# Altium footprint library AUVic_PCB_Library_Sensors.PcbLib: 11 footprints
Each footprint in its own frame and in the unit in brackets; x right, y up, seen from the top. Pads: shape width x height; smd on the part's side, far side on the other; paste and mask are expansions set on the pad; w line width, h text height; cw(c..) or ccw(c..) is an arc to the next point about the centre after c.
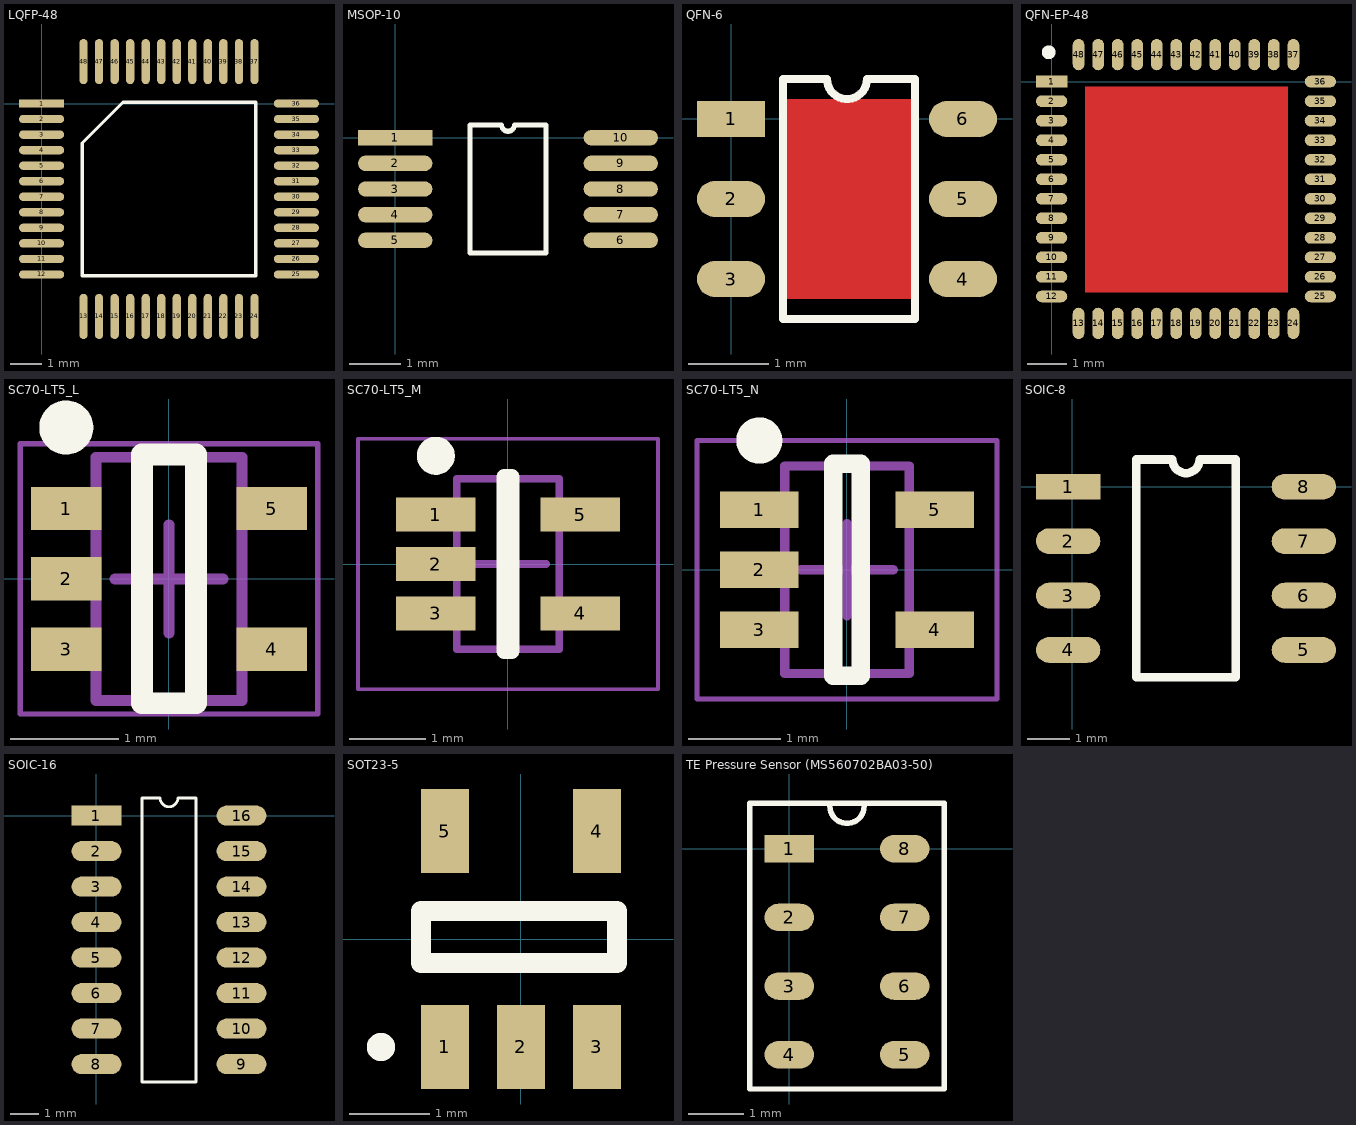
[diagram p0: the footprints below, top view; thin cyan lines are the x and y axes]

## LQFP-48 [mm]
pads (48):
  rect 1.45x0.27 smd: 1(0,0)
  oval 1.45x0.27 smd: 2(0,-0.5) 3(0,-1) 4(0,-1.5) 5(0,-2) 6(0,-2.5) 7(0,-3) 8(0,-3.5) 9(0,-4) 10(0,-4.5) 11(0,-5) 12(0,-5.5) 25(8.2,-5.5) 26(8.2,-5) 27(8.2,-4.5) 28(8.2,-4) 29(8.2,-3.5) 30(8.2,-3) 31(8.2,-2.5) 32(8.2,-2) 33(8.2,-1.5) 34(8.2,-1) 35(8.2,-0.5) 36(8.2,0)
  oval 0.27x1.45 smd: 13(1.35,-6.85) 14(1.85,-6.85) 15(2.35,-6.85) 16(2.85,-6.85) 17(3.35,-6.85) 18(3.85,-6.85) 19(4.35,-6.85) 20(4.85,-6.85) 21(5.35,-6.85) 22(5.85,-6.85) 23(6.35,-6.85) 24(6.85,-6.85) 37(6.85,1.35) 38(6.35,1.35) 39(5.85,1.35) 40(5.35,1.35) 41(4.85,1.35) 42(4.35,1.35) 43(3.85,1.35) 44(3.35,1.35) 45(2.85,1.35) 46(2.35,1.35) 47(1.85,1.35) 48(1.35,1.35)
Top Overlay:
  lines w0.1: 1.31,-5.54 6.89,-5.54 6.89,0.04 2.62,0.04 1.31,-1.27 1.31,-5.54

## MSOP-10 [mm]
pads (10):
  rect 1.45x0.3 smd: 1(0,0)
  oval 1.45x0.3 smd: 2(0,-0.5) 3(0,-1) 4(0,-1.5) 5(0,-2) 6(4.4,-2) 7(4.4,-1.5) 8(4.4,-1) 9(4.4,-0.5) 10(4.4,0)
Top Overlay:
  lines w0.1: 1.46,-2.25 1.46,0.25 2.075,0.25 ccw(c2.2,0.25) 2.325,0.25 2.94,0.25 2.94,-2.25 1.46,-2.25
3D body "User Library-MSOP-10-1.step": height 1.03, standoff -0.02, extent -0.313,-2.5 4.714,0.5

## QFN-6 [mm]
pads (6):
  rect 0.85x0.45 smd: 1(0,0)
  oval 0.85x0.45 smd: 2(0,-1) 3(0,-2) 4(2.9,-2) 5(2.9,-1) 6(2.9,0)
Top Layer:
  rectangle: 0.7,-2.25 2.3,0.25
Top Overlay:
  lines w0.1: 0.65,-2.5 2.3,-2.5 2.3,0.5 1.7,0.5 cw(c1.45,0.5) 1.2,0.5 0.65,0.5 0.65,-2.5

## QFN-EP-48 [mm]
pads (48):
  rect 0.8x0.3 smd: 1(0,0)
  oval 0.8x0.3 smd: 2(0,-0.5) 3(0,-1) 4(0,-1.5) 5(0,-2) 6(0,-2.5) 7(0,-3) 8(0,-3.5) 9(0,-4) 10(0,-4.5) 11(0,-5) 12(0,-5.5) 25(6.88,-5.5) 26(6.88,-5) 27(6.88,-4.5) 28(6.88,-4) 29(6.88,-3.5) 30(6.88,-3) 31(6.88,-2.5) 32(6.88,-2) 33(6.88,-1.5) 34(6.88,-1) 35(6.88,-0.5) 36(6.88,0)
  oval 0.3x0.8 smd: 13(0.69,-6.19) 14(1.19,-6.19) 15(1.69,-6.19) 16(2.19,-6.19) 17(2.69,-6.19) 18(3.19,-6.19) 19(3.69,-6.19) 20(4.19,-6.19) 21(4.69,-6.19) 22(5.19,-6.19) 23(5.69,-6.19) 24(6.19,-6.19) 37(6.19,0.69) 38(5.69,0.69) 39(5.19,0.69) 40(4.69,0.69) 41(4.19,0.69) 42(3.69,0.69) 43(3.19,0.69) 44(2.69,0.69) 45(2.19,0.69) 46(1.69,0.69) 47(1.19,0.69) 48(0.69,0.69)
Top Layer:
  rectangle: 0.85,-5.4 6.05,-0.125
Top Overlay:
  circle w0.254: c-0.075,0.75 r0.05

## SC70-LT5_L [mm] "SOT353, 5-Leads, Body 2x1.3mm, Pitch 0.65mm, Lead Span 2.1mm, IPC High Density"
height 1.1
pads (5):
  rect 0.65x0.4 smd: 1(-0.95,0.65) 2(-0.95,0) 3(-0.95,-0.65) 4(0.95,-0.65) 5(0.95,0.65)
Top Overlay:
  circle w0.25: c-0.95,1.4 r0.125
  lines w0.2: -0.25,-1.15 -0.25,1.15 0.25,1.15 0.25,-1.15 -0.25,-1.15
Mechanical 13:
  lines w0.1: -0.675,-1.125 0.675,-1.125 0.675,1.125 -0.675,1.125 -0.675,-1.125
Mechanical 15:
  lines w0.05: -1.375,-1.25 1.375,-1.25 1.375,1.25 -1.375,1.25 -1.375,-1.25
  lines w0.1: -0.5,0 0.5,0 ; 0,-0.5 0,0.5
3D body "User Library-TSSOP-5 (SOT-23-5 PITCH 0_65).STEP": height 1.09, standoff -0.02, extent -1.125,-1.125 1.125,1.125

## SC70-LT5_M [mm] "SOT353, 5-Leads, Body 2x1.3mm, Pitch 0.65mm, Lead Span 2.1mm, IPC Low Density"
height 1.1
pads (5):
  rect 1.05x0.45 smd: 1(-0.95,0.65) 2(-0.95,0) 3(-0.95,-0.65) 4(0.95,-0.65) 5(0.95,0.65)
Top Overlay:
  circle w0.25: c-0.95,1.425 r0.125
  lines w0.2: -0.05,-1.15 -0.05,1.15 0.05,1.15 0.05,-1.15 -0.05,-1.15
Mechanical 13:
  lines w0.1: -0.675,-1.125 0.675,-1.125 0.675,1.125 -0.675,1.125 -0.675,-1.125
Mechanical 15:
  lines w0.05: -1.975,-1.65 1.975,-1.65 1.975,1.65 -1.975,1.65 -1.975,-1.65
  lines w0.1: -0.5,0 0.5,0 ; 0,-0.5 0,0.5
3D body "User Library-TSSOP-5 (SOT-23-5 PITCH 0_65).STEP": height 1.09, standoff -0.02, extent -1.125,-1.125 1.125,1.125

## SC70-LT5_N [mm] "SOT353, 5-Leads, Body 2x1.3mm, Pitch 0.65mm, Lead Span 2.1mm, IPC Medium Density"
height 1.1
pads (5):
  rect 0.85x0.4 smd: 1(-0.95,0.65) 2(-0.95,0) 3(-0.95,-0.65) 4(0.95,-0.65) 5(0.95,0.65)
Top Overlay:
  circle w0.25: c-0.95,1.4 r0.125
  lines w0.2: -0.15,-1.15 -0.15,1.15 0.15,1.15 0.15,-1.15 -0.15,-1.15
Mechanical 13:
  lines w0.1: -0.675,-1.125 0.675,-1.125 0.675,1.125 -0.675,1.125 -0.675,-1.125
Mechanical 15:
  lines w0.05: -1.625,-1.4 1.625,-1.4 1.625,1.4 -1.625,1.4 -1.625,-1.4
  lines w0.1: -0.5,0 0.5,0 ; 0,-0.5 0,0.5
3D body "User Library-TSSOP-5 (SOT-23-5 PITCH 0_65).STEP": height 1.09, standoff -0.02, extent -1.125,-1.125 1.125,1.125

## SOIC-8 [mm]
pads (8):
  rect 1.5x0.6 smd: 1(-0.1,0)
  oval 1.5x0.6 smd: 2(-0.1,-1.27) 3(-0.1,-2.54) 4(-0.1,-3.81) 5(5.4,-3.81) 6(5.4,-2.54) 7(5.4,-1.27) 8(5.4,0)
Top Overlay:
  lines w0.2: 1.485,-4.445 3.815,-4.445 3.815,0.635 2.967,0.635 cw(c2.65,0.635) 2.332,0.635 1.485,0.635 1.485,-4.445
3D body "User Library-SOIC8_JEDEC_MS-012AA.step": height 1.75, standoff -0.01, extent -0.449,-4.4 5.75,0.6

## SOIC-16 [mm]
pads (16):
  rect 1.78x0.72 smd: 1(0,0)
  oval 1.78x0.72 smd: 2(0,-1.27) 3(0,-2.54) 4(0,-3.81) 5(0,-5.08) 6(0,-6.35) 7(0,-7.62) 8(0,-8.89) 9(5.19,-8.89) 10(5.19,-7.62) 11(5.19,-6.35) 12(5.19,-5.08) 13(5.19,-3.81) 14(5.19,-2.54) 15(5.19,-1.27) 16(5.19,0)
Top Overlay:
  lines w0.1: 1.625,-9.525 1.625,0.635 2.277,0.635 ccw(c2.595,0.635) 2.912,0.635 3.565,0.635 3.565,-9.525 1.625,-9.525
3D body "User Library-so16.step": height 1.7, standoff 0, extent -0.425,-9.6 5.575,0.6

## SOT23-5 [mm] "SOT23-5 SMT"
pads (5):
  rect 0.6x1.05 smd: 1(-0.95,-1.35) 2(0,-1.35) 3(0.95,-1.35) 4(0.95,1.35) 5(-0.95,1.35)
Top Overlay:
  circle w0.254: c-1.75,-1.35 r0.05
  lines w0.254: -1.25,-0.3 -1.25,0.35 1.2,0.35 1.2,-0.3 -1.25,-0.3

## TE Pressure Sensor (MS560702BA03-50) [mm]
pads (8):
  rect 0.9x0.5 smd: 1(0,0)
  oval 0.9x0.5 smd: 2(0,-1.25) 3(0,-2.5) 4(0,-3.75) 5(2.1,-3.75) 6(2.1,-2.5) 7(2.1,-1.25) 8(2.1,0)
Top Overlay:
  lines w0.1: 0.738,0.775 ccw(c1.05,0.775) 1.362,0.775 ; 0.938,0.825 2.825,0.825 2.825,-4.375 -0.725,-4.375 -0.725,0.825 1.162,0.825